# EAGLE library part LTC6992CS6-1:SOT-23-6 (library rebelstack)
Voltage Controlled Pulse Width Modulator, SOT-23-6
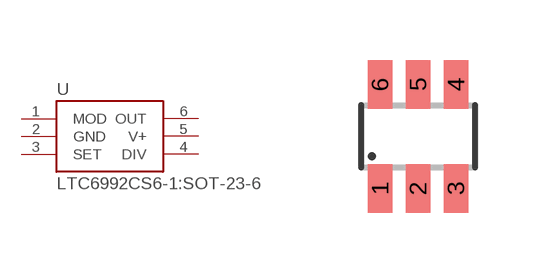
[diagram p0: symbol with the pads of SOT-23-6; footprint SOT-23-6]

Designator prefix U

## LTC6992CS6-1:SOT-23-6 (DISTRIBUTOR: Digi-key; DISTRIBUTOR_PN: LTC6992CS6-1#TRMPBFCT-ND)  [SOT-23-6]
1  MOD  in
2  GND  pwr
3  SET  pas
4  DIV  pas
5  V+  pwr
6  OUT  out

## Footprint SOT-23-6 (pad centres in mm)
6-Lead Small Outline Transistor Package
smd 0.62 x 1.22: 1 -0.95,-1.3; 2 0,-1.3; 3 0.95,-1.3; 4 0.95,1.3; 5 0,1.3; 6 -0.95,1.3